# EAGLE library part DS1307 (library crystal_clock)
Maxim DS1307 - I2C Real-time clock (RTC) The DS1307 serial real-time clock (RTC) is a low-power, full binary-coded decimal (BCD) clock/calendar plus 56 bytes of NV SRAM. Address and data are transferred serially through an I2C, bidirectional bus. The clock/calendar provides seconds, minutes, hours, day, date, month, and year information. SparkFun Products: Real Time Clock Module <https://www.sparkfun.com/products/12708> (BOB-12708) Datasheet <https://cdn.sparkfun.com/datasheets/BreakoutBoards/DS1307.pdf>
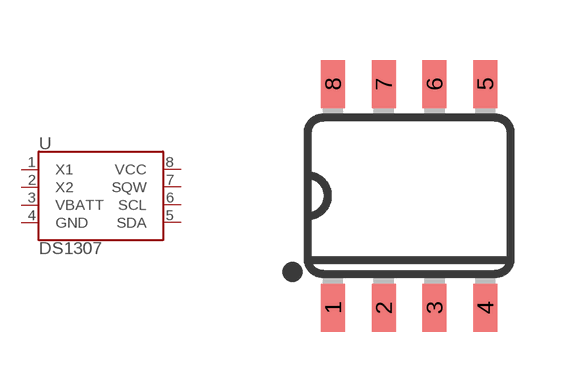
[diagram p1: symbol with the pads of SO08-0.15; footprint SO08-0.15]

Designator prefix U

## DS1307Z (PROD_ID: IC-08138)  [SO08-0.15]
1  X1
2  X2
3  VBATT
4  GND
5  SDA
6  SCL
7  SQW
8  VCC

## Footprint SO08-0.15 (pad centres in mm)
8-Pin SOIC 150mil 0.154" (3.9mm) width. Fits JEDEC packages (narrow SOIC-8). Used by DS1077 and DS1307 programmable oscillators
smd 0.6 x 1.2: 1 -1.905,-2.8; 2 -0.635,-2.8; 3 0.635,-2.8; 4 1.905,-2.8; 5 1.905,2.8; 6 0.635,2.8; 7 -0.635,2.8; 8 -1.905,2.8